# Altium footprint library Inductor SMD 4mm.PcbLib: 1 footprints
Each footprint in its own frame and in the unit in brackets; x right, y up, seen from the top. Pads: shape width x height; smd on the part's side, far side on the other; paste and mask are expansions set on the pad; w line width, h text height; cw(c..) or ccw(c..) is an arc to the next point about the centre after c.
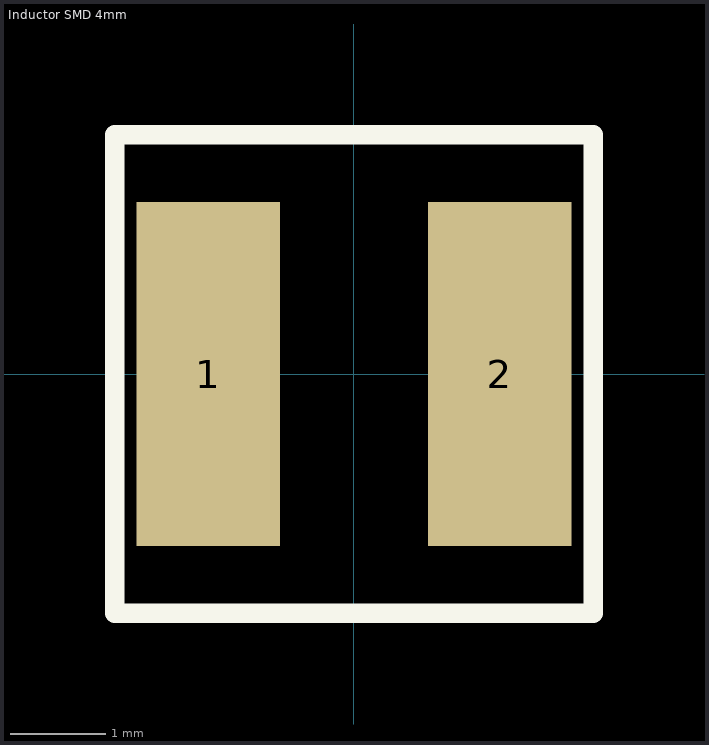
[diagram p0: the footprint, top view; thin cyan lines are the x and y axes]

## Inductor SMD 4mm [mm]
pads (2):
  rect 1.5x3.6 smd: 1(-1.525,0) 2(1.525,0)
Top Overlay:
  lines w0.2: -2.5,-2.5 -2.5,0.475 -2.5,2.5 2.5,2.5 2.5,-2.5 -2.5,-2.5
3D body: height 2.5, standoff 0, extent -1.8,-1.8 1.8,1.8